# EAGLE library part USB-A-PLUG (library Connector)
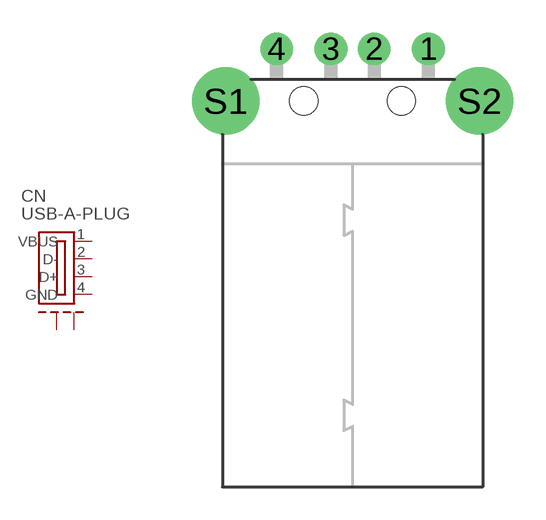
[diagram p26: symbol with the pads of USB-A-PLUG; footprint USB-A-PLUG]

Designator prefix CN

## USB-A-PLUG  [USB-A-PLUG]
1  VBUS  pas
2  D-  pas
3  D+  pas
4  GND  pas
S1  S1  pas
S2  S2  pas

## Footprint USB-A-PLUG (pad centres in mm)
drill 1: 1 3.5,2.4; 2 1,2.4; 3 -1,2.4; 4 -3.5,2.4
drill 2.1 pad 2.7: S1 -5.85,0; S2 5.85,0
hole 1.3 at -2.25,0
hole 1.3 at 2.25,0